# EAGLE library part PINHD-1X16 (library EE445L)
HiLetgo 1.8" inch ST7735R SPI 128160 TFT LCD Display Module with PCB
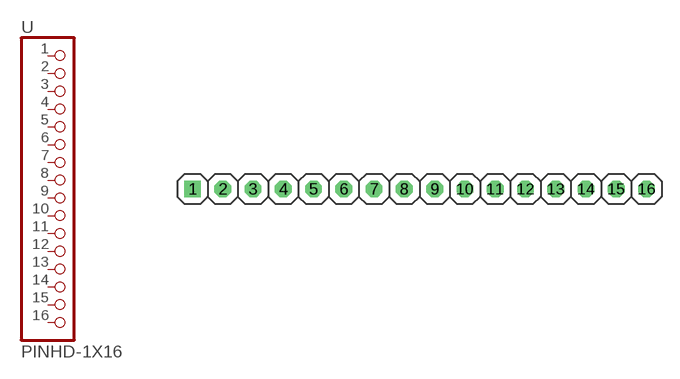
[diagram p33: symbol with the pads of 1X16; footprint 1X16]

Designator prefix -

## PINHD-1X16  [1X16]
1  1  pas
2  2  pas
3  3  pas
4  4  pas
5  5  pas
6  6  pas
7  7  pas
8  8  pas
9  9  pas
10  10  pas
11  11  pas
12  12  pas
13  13  pas
14  14  pas
15  15  pas
16  16  pas

## Footprint 1X16 (pad centres in mm)
PIN HEADER
drill 0.9 square: 1 -11.43,0
drill 0.9 octagon: 2 -8.89,0; 3 -6.35,0; 4 -3.81,0; 5 -1.27,0; 6 1.27,0; 7 3.81,0; 8 6.35,0; 9 8.89,0; 10 11.43,0; 11 13.97,0; 12 16.51,0; 13 19.05,0; 14 21.59,0; 15 24.13,0; 16 26.67,0